# Altium schematic symbol library EE25-13-7 transformer.SchLib: 1 symbol
Pins are listed as number, name and electrical type; pins without a type are passive.

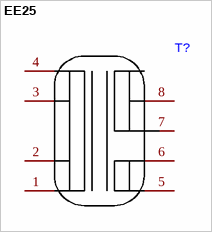
[diagram p0: symbol EE25]

## EE25
designator T?
footprint EE25
pins: 1, 2, 3, 4, 5, 6, 7, 8